# EAGLE library part DF13A-10DP (library Con_Hirose_Df13)
DF13-10DP Double row, 1.25mm Pitch Miniature Crimping Connector.
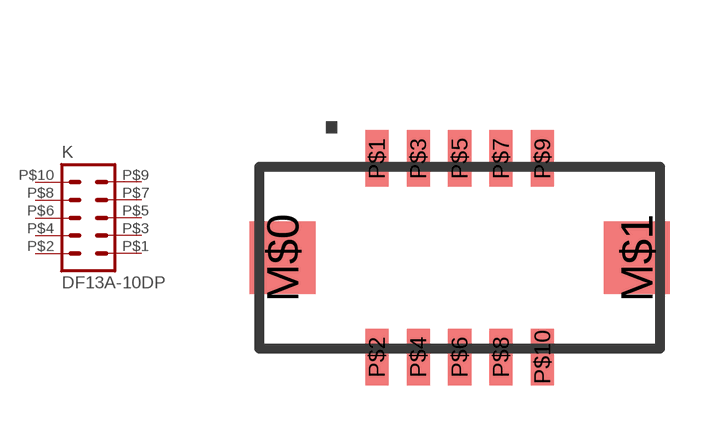
[diagram p13: symbol with the pads of DF13A-10DP-1.25V; footprint DF13A-10DP-1.25V]

Designator prefix K

## DF13A-10DP10DP-1.25V  [DF13A-10DP-1.25V]
P$1  1  pas
P$2  2  pas
P$3  3  pas
P$4  4  pas
P$5  5  pas
P$6  6  pas
P$7  7  pas
P$8  8  pas
P$9  9  pas
P$10  10  pas

## Footprint DF13A-10DP-1.25V (pad centres in mm)
Double Row Straight Pin Header (SMT)
smd 2 x 2.2: M$0 -5.35,0; M$1 5.35,0
smd 0.7 x 1.7: P$1 -2.5,3; P$2 -2.5,-3; P$3 -1.25,3; P$4 -1.25,-3; P$5 0,3; P$6 0,-3; P$7 1.25,3; P$8 1.25,-3; P$9 2.5,3; P$10 2.5,-3